# Altium footprint library Inductor2.PcbLib: 19 footprints (part 2 of 2)
Each footprint in its own frame and in the unit in brackets; x right, y up, seen from the top. Pads: shape width x height; smd on the part's side, far side on the other; paste and mask are expansions set on the pad; w line width, h text height; cw(c..) or ccw(c..) is an arc to the next point about the centre after c.
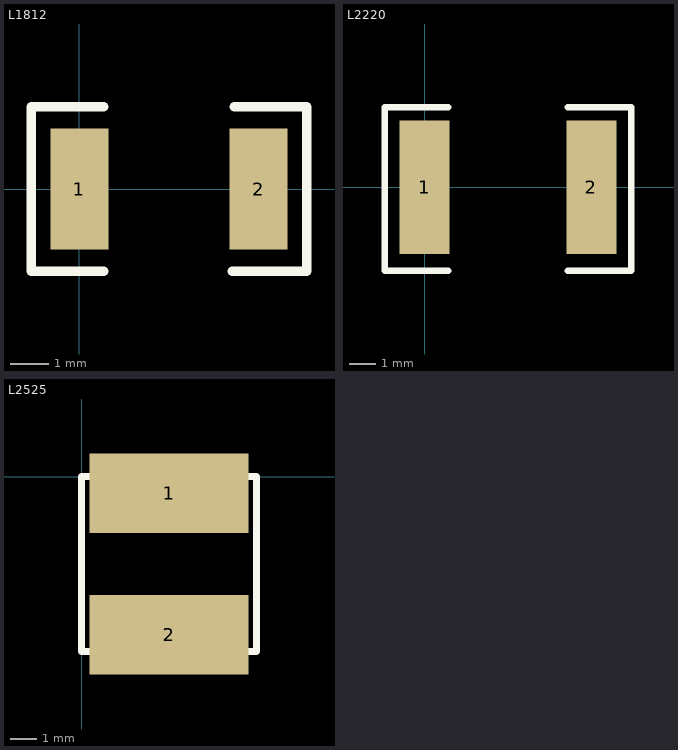
[diagram p1: the footprints below, top view; thin cyan lines are the x and y axes]

## L1812 [mil]
pads (2):
  rect 60x125 smd: 1(0,0) 2(185,0)
Top Overlay:
  lines w10: 25,-85 -50,-85 -50,85 25,85 ; 158,-85 160,-85 235,-85 235,85 160,85 ; 159,-85 161,-85
3D body "L1812.STEP": height 118.11, standoff -2.01, extent 1.89,-63 184.11,62.98

## L2220 [mil]
pads (2):
  rect 75x200 smd: 1(0,0) 2(250,0)
Top Overlay:
  lines w10: 35,-125 -60,-125 -60,120 35,120 ; 215,-125 310,-125 310,120 215,120
3D body "L2220.STEP": height 98.43, standoff 0, extent 11.79,-98 236.2,98.85

## L2525 [mm]
pads (2):
  rect 6x3 smd: 1(3.302,-0.635) 2(3.302,-5.969)
Top Overlay:
  lines w0.254: 0,-6.604 0,0 6.604,0 6.604,-6.604 0,-6.604
3D body "电感": height 4.5, standoff -0.01, extent 0.702,-6.133 5.902,-0.42